# Altium schematic symbol library 330uF_CAP.SCHLIB: 1 symbol
Pins are listed as number, name and electrical type; pins without a type are passive.

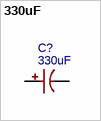
[diagram p0: symbol 330uF]

## 330uF
designator C?
Manufacturer: CX(承兴); Manufacturer Part: GR337M050F20RR0VL4FP0; nameAlias: Value; Supplier: LCSC; Supplier Part: C45106; JLCPCB Part Class: Extended Part; spicePre: C; spiceSymbolName: 330uF 50V 8*20Green high frequency
footprint CAP-TH_BD8.0-P3.50-D0.6-FD
pins: 1, 2